# EAGLE library part LTC3529 (library PowerProducts)
LT-Spice library generated with : ltspice.ulp from: D:/Program Files (x86)/LTC/LTspiceIV/lib/sym/PowerProducts/LTC3530*.asy at 07.10.2012 18:15:16
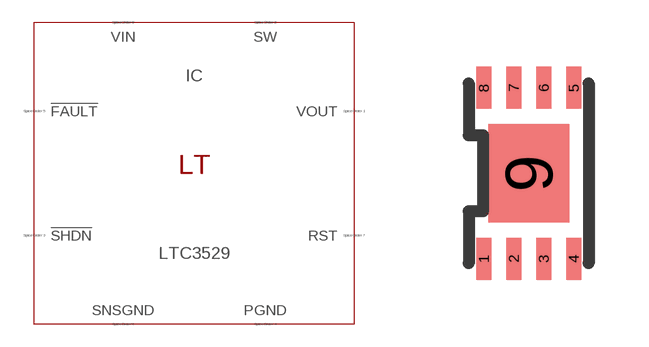
[diagram p217: symbol with the pads of DFN8(DCB); footprint DFN8(DCB)]

Designator prefix IC

## LTC3529 (SPICEMODEL: LTC3529.sub; SPICEPREFIX: X; VALUE2: LTC3529)  [DFN8(DCB)]
1  VOUT  pas
2  SW  pas
3  !SHDN  pas
4  PGND  pas
5  !FAULT  pas
6  SNSGND  pas
7  RST  pas
8  VIN  pas
9  PGND  pas

## Footprint DFN8(DCB) (pad centres in mm)
Package generated from: DFN8(DCB).asc (!PADS-POWERPCB-V5.0-BASIC! DESIGN DATABASE ASCII FILE 1.0) with :import-pads-powerpcb-v5.ulp Version 1.0.1 at 04.10.2012 14:11:17
smd 0.375 x 1.05: 1 -1.125,-2.138; 2 -0.375,-2.138; 3 0.375,-2.138; 4 1.125,-2.138; 5 1.125,2.138; 6 0.375,2.138; 7 -0.375,2.138; 8 -1.125,2.138
smd 2.025 x 2.475: 9 0,0